# EAGLE library part CD40109 (library 40xx)
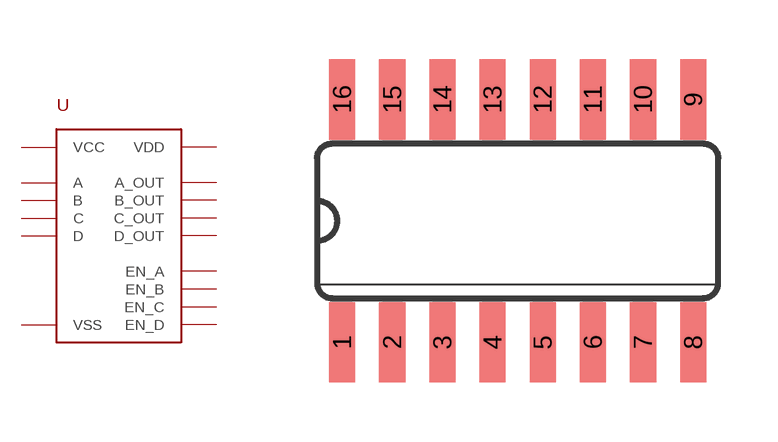
[diagram p87: symbol with the pads of SO16; footprint SO16]

Designator prefix -

## CD40109  [SO16]
1  VCC
2  EN_A
3  A
4  A_OUT
5  B_OUT
6  B
7  EN_B
8  VSS
9  EN_C
10  C
11  C_OUT
13  D_OUT
14  D
15  EN_D
16  VDD

## Footprint SO16 (pad centres in mm)
Small Outline package 150 mil
smd 0.66 x 2.032: 1 -4.445,-3.073; 2 -3.175,-3.073; 3 -1.905,-3.073; 4 -0.635,-3.073; 5 0.635,-3.073; 6 1.905,-3.073; 7 3.175,-3.073; 8 4.445,-3.073; 9 4.445,3.073; 10 3.175,3.073; 11 1.905,3.073; 12 0.635,3.073; 13 -0.635,3.073; 14 -1.905,3.073; 15 -3.175,3.073; 16 -4.445,3.073